# EAGLE library part POWER_POWER_U2402B_DIP (library WurzPower)
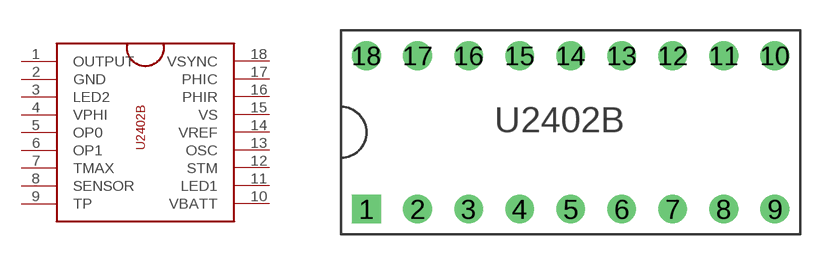
[diagram p0: symbol with the pads of POWER_POWER_U2402B; footprint POWER_POWER_U2402B]

Designator prefix -

## POWER_POWER_U2402B_DIP  [POWER_POWER_U2402B]
1  OUTPUT
2  GND
3  LED2
4  VPHI
5  OP0
6  OP1
7  TMAX
8  SENSOR
9  TP
10  VBATT
11  LED1
12  STM
13  OSC
14  VREF
15  VS
16  PHIR
17  PHIC
18  VSYNC

## Footprint POWER_POWER_U2402B (pad centres in mm)
drill 0.5 pad 1.422 square: 1 -7.62,1.27
drill 0.5 pad 1.422: 2 -5.08,1.27; 3 -2.54,1.27; 4 0,1.27; 5 2.54,1.27; 6 5.08,1.27; 7 7.62,1.27; 8 10.16,1.27; 9 12.7,1.27; 10 12.7,8.89; 11 10.16,8.89; 12 7.62,8.89; 13 5.08,8.89; 14 2.54,8.89; 15 0,8.89; 16 -2.54,8.89; 17 -5.08,8.89; 18 -7.62,8.89